# Altium schematic symbol library Dial Switch.SchLib: 2 symbols
Pins are listed as number, name and electrical type; pins without a type are passive.

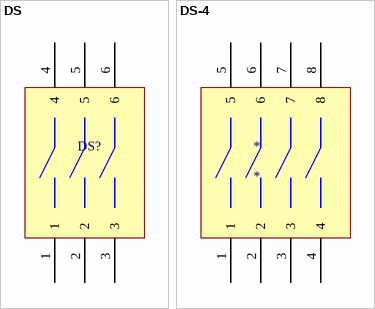
[diagram p0: symbols DS to DS-4]

## DS
designator DS?, comment Dial Switch  (value not drawn)
footprint DS-P3
pins: 1, 2, 3, 4, 5, 6

## DS-4
designator *
pins: 1, 2, 3, 4, 5, 6, 7, 8